# Altium integrated library Altium_WE-PD2A+(rev22c).IntLib: 94 symbols (part 1 of 2)
Pins are listed as number, name and electrical type; pins without a type are passive.

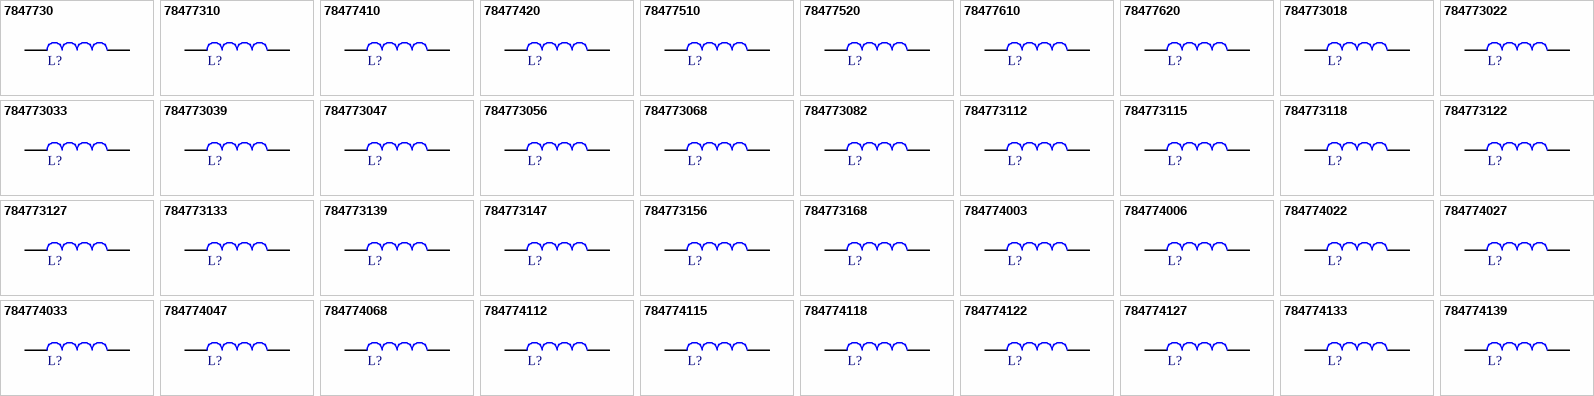
[diagram p0: symbols 7847730 to 784774139]

## 7847730
designator L?, comment 1µH  (value not drawn)
WE-PD2A SMT Power Inductor, size 4532, 1µH, 4A, 0.049Ω; Manufacturer Part Number: 7847730; Manufacturer: Wurth Elektronik; Case/Size Code: 4532; DC Resistance: 0.014Ω; Rated Voltage: 80VDC; Saturation Current: 5.72A; Self Resonant Frequency: 110MHz; Category: Single Coil Power Inductors; Match Code: WE-PD2A; ComponentLink1Description: Website Link; ComponentLink1URL: https://www.we-online.com/redexpert/article/7847730?ad; ComponentLink2Description: Datasheet Link; ComponentLink2URL: https://www.we-online.com/redexpert/spec/7847730?ad; Mount: Surface Mount; Operating Temperature Max: 125°C; Operating Temperature Min: -40°C; Packaging: Tape and Reel; Length: 4.5mm; Width: 4mm; Height: 3.2mm; Automotive: Yes; DC Resistance Max: 0.049Ω; Inductance: 1µH; Rated Current: 4A
footprint WE-PD2A_4532
simulation model 4532_7847730_1u
pins: 1, 2

## 78477310
designator L?, comment 10µH  (value not drawn)
WE-PD2A SMT Power Inductor, size 4532, 10µH, 1.45A, 0.182Ω; Manufacturer Part Number: 78477310; Manufacturer: Wurth Elektronik; Case/Size Code: 4532; DC Resistance: 0.118Ω; Rated Voltage: 80VDC; Saturation Current: 1.74A; Self Resonant Frequency: 30MHz; Category: Single Coil Power Inductors; Match Code: WE-PD2A; ComponentLink1Description: Website Link; ComponentLink1URL: https://www.we-online.com/redexpert/article/78477310?ad; ComponentLink2Description: Datasheet Link; ComponentLink2URL: https://www.we-online.com/redexpert/spec/78477310?ad; Mount: Surface Mount; Operating Temperature Max: 125°C; Operating Temperature Min: -40°C; Packaging: Tape and Reel; Length: 4.5mm; Width: 4mm; Height: 3.2mm; Automotive: Yes; DC Resistance Max: 0.182Ω; Inductance: 10µH; Rated Current: 1.45A
footprint WE-PD2A_4532
simulation model 4532_78477310_10u
pins: 1, 2

## 78477410
designator L?, comment 10µH  (value not drawn)
WE-PD2A SMT Power Inductor, size 5848, 10µH, 2.2A, 0.1Ω; Manufacturer Part Number: 78477410; Manufacturer: Wurth Elektronik; Case/Size Code: 5848; DC Resistance: 0.078Ω; Rated Voltage: 80VDC; Saturation Current: 2.5A; Self Resonant Frequency: 26MHz; Category: Single Coil Power Inductors; Match Code: WE-PD2A; ComponentLink1Description: Website Link; ComponentLink1URL: https://www.we-online.com/redexpert/article/78477410?ad; ComponentLink2Description: Datasheet Link; ComponentLink2URL: https://www.we-online.com/redexpert/spec/78477410?ad; Mount: Surface Mount; Operating Temperature Max: 125°C; Operating Temperature Min: -40°C; Packaging: Tape and Reel; Length: 5.8mm; Width: 5.2mm; Height: 4.5mm; Automotive: Yes; DC Resistance Max: 0.1Ω; Inductance: 10µH; Rated Current: 2.2A
footprint WE-PD2A_5848
simulation model 5848_78477410_10u
pins: 1, 2

## 78477420
designator L?, comment 100µH  (value not drawn)
WE-PD2A SMT Power Inductor, size 5848, 100µH, 0.57A, 0.65Ω; Manufacturer Part Number: 78477420; Manufacturer: Wurth Elektronik; Case/Size Code: 5848; DC Resistance: 0.51Ω; Rated Voltage: 80VDC; Saturation Current: 0.68A; Self Resonant Frequency: 7MHz; Category: Single Coil Power Inductors; Match Code: WE-PD2A; ComponentLink1Description: Website Link; ComponentLink1URL: https://www.we-online.com/redexpert/article/78477420?ad; ComponentLink2Description: Datasheet Link; ComponentLink2URL: https://www.we-online.com/redexpert/spec/78477420?ad; Mount: Surface Mount; Operating Temperature Max: 125°C; Operating Temperature Min: -40°C; Packaging: Tape and Reel; Length: 5.8mm; Width: 5.2mm; Height: 4.5mm; Automotive: Yes; DC Resistance Max: 0.65Ω; Inductance: 100µH; Rated Current: 0.57A
footprint WE-PD2A_5848
simulation model 5848_78477420_100u
pins: 1, 2

## 78477510
designator L?, comment 10µH  (value not drawn)
WE-PD2A SMT Power Inductor, size 7850, 10µH, 2.3A, 0.07Ω; Manufacturer Part Number: 78477510; Manufacturer: Wurth Elektronik; Case/Size Code: 7850; DC Resistance: 0.04Ω; Rated Voltage: 80VDC; Saturation Current: 2.95A; Self Resonant Frequency: 23MHz; Category: Single Coil Power Inductors; Match Code: WE-PD2A; ComponentLink1Description: Website Link; ComponentLink1URL: https://www.we-online.com/redexpert/article/78477510?ad; ComponentLink2Description: Datasheet Link; ComponentLink2URL: https://www.we-online.com/redexpert/spec/78477510?ad; Mount: Surface Mount; Operating Temperature Max: 125°C; Operating Temperature Min: -40°C; Packaging: Tape and Reel; Length: 7.8mm; Width: 7mm; Height: 5mm; Automotive: Yes; DC Resistance Max: 0.07Ω; Inductance: 10µH; Rated Current: 2.3A
footprint WE-PD2A_7850
simulation model 7850_78477510_10u
pins: 1, 2

## 78477520
designator L?, comment 100µH  (value not drawn)
WE-PD2A SMT Power Inductor, size 7850, 100µH, 0.77A, 0.43Ω; Manufacturer Part Number: 78477520; Manufacturer: Wurth Elektronik; Case/Size Code: 7850; DC Resistance: 0.281Ω; Rated Voltage: 80VDC; Saturation Current: 0.86A; Self Resonant Frequency: 7MHz; Category: Single Coil Power Inductors; Match Code: WE-PD2A; ComponentLink1Description: Website Link; ComponentLink1URL: https://www.we-online.com/redexpert/article/78477520?ad; ComponentLink2Description: Datasheet Link; ComponentLink2URL: https://www.we-online.com/redexpert/spec/78477520?ad; Mount: Surface Mount; Operating Temperature Max: 125°C; Operating Temperature Min: -40°C; Packaging: Tape and Reel; Length: 7.8mm; Width: 7mm; Height: 5mm; Automotive: Yes; DC Resistance Max: 0.43Ω; Inductance: 100µH; Rated Current: 0.77A
footprint WE-PD2A_7850
simulation model 7850_78477520_100u
pins: 1, 2

## 78477610
designator L?, comment 10µH  (value not drawn)
WE-PD2A SMT Power Inductor, size 1054, 10µH, 2.98A, 0.06Ω; Manufacturer Part Number: 78477610; Manufacturer: Wurth Elektronik; Case/Size Code: 1054; DC Resistance: 0.028Ω; Rated Voltage: 80VDC; Saturation Current: 3.24A; Self Resonant Frequency: 27.52MHz; Category: Single Coil Power Inductors; Match Code: WE-PD2A; ComponentLink1Description: Website Link; ComponentLink1URL: https://www.we-online.com/redexpert/article/78477610?ad; ComponentLink2Description: Datasheet Link; ComponentLink2URL: https://www.we-online.com/redexpert/spec/78477610?ad; Mount: Surface Mount; Operating Temperature Max: 125°C; Operating Temperature Min: -40°C; Packaging: Tape and Reel; Length: 10mm; Width: 9mm; Height: 5.4mm; Automotive: Yes; DC Resistance Max: 0.06Ω; Inductance: 10µH; Rated Current: 2.98A
footprint WE-PD2A_1054
simulation model 1054_78477610_10u
pins: 1, 2

## 78477620
designator L?, comment 100µH  (value not drawn)
WE-PD2A SMT Power Inductor, size 1054, 100µH, 1.02A, 0.35Ω; Manufacturer Part Number: 78477620; Manufacturer: Wurth Elektronik; Case/Size Code: 1054; DC Resistance: 0.2Ω; Rated Voltage: 80VDC; Saturation Current: 1.1A; Self Resonant Frequency: 6.69MHz; Category: Single Coil Power Inductors; Match Code: WE-PD2A; ComponentLink1Description: Website Link; ComponentLink1URL: https://www.we-online.com/redexpert/article/78477620?ad; ComponentLink2Description: Datasheet Link; ComponentLink2URL: https://www.we-online.com/redexpert/spec/78477620?ad; Mount: Surface Mount; Operating Temperature Max: 125°C; Operating Temperature Min: -40°C; Packaging: Tape and Reel; Length: 10mm; Width: 9mm; Height: 5.4mm; Automotive: Yes; DC Resistance Max: 0.35Ω; Inductance: 100µH; Rated Current: 1.02A
footprint WE-PD2A_1054
simulation model 1054_78477620_100u
pins: 1, 2

## 784773018
designator L?, comment 1.8µH  (value not drawn)
WE-PD2A SMT Power Inductor, size 4532, 1.8µH, 2.7A, 0.064Ω; Manufacturer Part Number: 784773018; Manufacturer: Wurth Elektronik; Case/Size Code: 4532; DC Resistance: 0.028Ω; Rated Voltage: 80VDC; Saturation Current: 3.6A; Self Resonant Frequency: 85MHz; Category: Single Coil Power Inductors; Match Code: WE-PD2A; ComponentLink1Description: Website Link; ComponentLink1URL: https://www.we-online.com/redexpert/article/784773018?ad; ComponentLink2Description: Datasheet Link; ComponentLink2URL: https://www.we-online.com/redexpert/spec/784773018?ad; Mount: Surface Mount; Operating Temperature Max: 125°C; Operating Temperature Min: -40°C; Packaging: Tape and Reel; Length: 4.5mm; Width: 4mm; Height: 3.2mm; Automotive: Yes; DC Resistance Max: 0.064Ω; Inductance: 1.8µH; Rated Current: 2.7A
footprint WE-PD2A_4532
simulation model 4532_784773018_1.8u
pins: 1, 2

## 784773022
designator L?, comment 2.2µH  (value not drawn)
WE-PD2A SMT Power Inductor, size 4532, 2.2µH, 2.5A, 0.071Ω; Manufacturer Part Number: 784773022; Manufacturer: Wurth Elektronik; Case/Size Code: 4532; DC Resistance: 0.034Ω; Rated Voltage: 80VDC; Saturation Current: 3.38A; Self Resonant Frequency: 74MHz; Category: Single Coil Power Inductors; Match Code: WE-PD2A; ComponentLink1Description: Website Link; ComponentLink1URL: https://www.we-online.com/redexpert/article/784773022?ad; ComponentLink2Description: Datasheet Link; ComponentLink2URL: https://www.we-online.com/redexpert/spec/784773022?ad; Mount: Surface Mount; Operating Temperature Max: 125°C; Operating Temperature Min: -40°C; Packaging: Tape and Reel; Length: 4.5mm; Width: 4mm; Height: 3.2mm; Automotive: Yes; DC Resistance Max: 0.071Ω; Inductance: 2.2µH; Rated Current: 2.5A
footprint WE-PD2A_4532
simulation model 4532_784773022_2.2u
pins: 1, 2

## 784773033
designator L?, comment 3.3µH  (value not drawn)
WE-PD2A SMT Power Inductor, size 4532, 3.3µH, 2A, 0.086Ω; Manufacturer Part Number: 784773033; Manufacturer: Wurth Elektronik; Case/Size Code: 4532; DC Resistance: 0.041Ω; Rated Voltage: 80VDC; Saturation Current: 2.88A; Self Resonant Frequency: 55MHz; Category: Single Coil Power Inductors; Match Code: WE-PD2A; ComponentLink1Description: Website Link; ComponentLink1URL: https://www.we-online.com/redexpert/article/784773033?ad; ComponentLink2Description: Datasheet Link; ComponentLink2URL: https://www.we-online.com/redexpert/spec/784773033?ad; Mount: Surface Mount; Operating Temperature Max: 125°C; Operating Temperature Min: -40°C; Packaging: Tape and Reel; Length: 4.5mm; Width: 4mm; Height: 3.2mm; Automotive: Yes; DC Resistance Max: 0.086Ω; Inductance: 3.3µH; Rated Current: 2A
footprint WE-PD2A_4532
simulation model 4532_784773033_3.3u
pins: 1, 2

## 784773039
designator L?, comment 3.9µH  (value not drawn)
WE-PD2A SMT Power Inductor, size 4532, 3.9µH, 1.88A, 0.094Ω; Manufacturer Part Number: 784773039; Manufacturer: Wurth Elektronik; Case/Size Code: 4532; DC Resistance: 0.054Ω; Rated Voltage: 80VDC; Saturation Current: 2.57A; Self Resonant Frequency: 50MHz; Category: Single Coil Power Inductors; Match Code: WE-PD2A; ComponentLink1Description: Website Link; ComponentLink1URL: https://www.we-online.com/redexpert/article/784773039?ad; ComponentLink2Description: Datasheet Link; ComponentLink2URL: https://www.we-online.com/redexpert/spec/784773039?ad; Mount: Surface Mount; Operating Temperature Max: 125°C; Operating Temperature Min: -40°C; Packaging: Tape and Reel; Length: 4.5mm; Width: 4mm; Height: 3.2mm; Automotive: Yes; DC Resistance Max: 0.094Ω; Inductance: 3.9µH; Rated Current: 1.88A
footprint WE-PD2A_4532
simulation model 4532_784773039_3.9u
pins: 1, 2

## 784773047
designator L?, comment 4.7µH  (value not drawn)
WE-PD2A SMT Power Inductor, size 4532, 4.7µH, 1.82A, 0.11Ω; Manufacturer Part Number: 784773047; Manufacturer: Wurth Elektronik; Case/Size Code: 4532; DC Resistance: 0.059Ω; Rated Voltage: 80VDC; Saturation Current: 2.46A; Self Resonant Frequency: 45MHz; Category: Single Coil Power Inductors; Match Code: WE-PD2A; ComponentLink1Description: Website Link; ComponentLink1URL: https://www.we-online.com/redexpert/article/784773047?ad; ComponentLink2Description: Datasheet Link; ComponentLink2URL: https://www.we-online.com/redexpert/spec/784773047?ad; Mount: Surface Mount; Operating Temperature Max: 125°C; Operating Temperature Min: -40°C; Packaging: Tape and Reel; Length: 4.5mm; Width: 4mm; Height: 3.2mm; Automotive: Yes; DC Resistance Max: 0.11Ω; Inductance: 4.7µH; Rated Current: 1.82A
footprint WE-PD2A_4532
simulation model 4532_784773047_4.7u
pins: 1, 2

## 784773056
designator L?, comment 5.6µH  (value not drawn)
WE-PD2A SMT Power Inductor, size 4532, 5.6µH, 1.58A, 0.126Ω; Manufacturer Part Number: 784773056; Manufacturer: Wurth Elektronik; Case/Size Code: 4532; DC Resistance: 0.069Ω; Rated Voltage: 80VDC; Saturation Current: 2.43A; Self Resonant Frequency: 40MHz; Category: Single Coil Power Inductors; Match Code: WE-PD2A; ComponentLink1Description: Website Link; ComponentLink1URL: https://www.we-online.com/redexpert/article/784773056?ad; ComponentLink2Description: Datasheet Link; ComponentLink2URL: https://www.we-online.com/redexpert/spec/784773056?ad; Mount: Surface Mount; Operating Temperature Max: 125°C; Operating Temperature Min: -40°C; Packaging: Tape and Reel; Length: 4.5mm; Width: 4mm; Height: 3.2mm; Automotive: Yes; DC Resistance Max: 0.126Ω; Inductance: 5.6µH; Rated Current: 1.58A
footprint WE-PD2A_4532
simulation model 4532_784773056_5.6u
pins: 1, 2

## 784773068
designator L?, comment 6.8µH  (value not drawn)
WE-PD2A SMT Power Inductor, size 4532, 6.8µH, 1.54A, 0.131Ω; Manufacturer Part Number: 784773068; Manufacturer: Wurth Elektronik; Case/Size Code: 4532; DC Resistance: 0.076Ω; Rated Voltage: 80VDC; Saturation Current: 2.1A; Self Resonant Frequency: 35MHz; Category: Single Coil Power Inductors; Match Code: WE-PD2A; ComponentLink1Description: Website Link; ComponentLink1URL: https://www.we-online.com/redexpert/article/784773068?ad; ComponentLink2Description: Datasheet Link; ComponentLink2URL: https://www.we-online.com/redexpert/spec/784773068?ad; Mount: Surface Mount; Operating Temperature Max: 125°C; Operating Temperature Min: -40°C; Packaging: Tape and Reel; Length: 4.5mm; Width: 4mm; Height: 3.2mm; Automotive: Yes; DC Resistance Max: 0.131Ω; Inductance: 6.8µH; Rated Current: 1.54A
footprint WE-PD2A_4532
simulation model 4532_784773068_6.8u
pins: 1, 2

## 784773082
designator L?, comment 8.2µH  (value not drawn)
WE-PD2A SMT Power Inductor, size 4532, 8.2µH, 1.5A, 0.146Ω; Manufacturer Part Number: 784773082; Manufacturer: Wurth Elektronik; Case/Size Code: 4532; DC Resistance: 0.116Ω; Rated Voltage: 80VDC; Saturation Current: 1.8A; Self Resonant Frequency: 30MHz; Category: Single Coil Power Inductors; Match Code: WE-PD2A; ComponentLink1Description: Website Link; ComponentLink1URL: https://www.we-online.com/redexpert/article/784773082?ad; ComponentLink2Description: Datasheet Link; ComponentLink2URL: https://www.we-online.com/redexpert/spec/784773082?ad; Mount: Surface Mount; Operating Temperature Max: 125°C; Operating Temperature Min: -40°C; Packaging: Tape and Reel; Length: 4.5mm; Width: 4mm; Height: 3.2mm; Automotive: Yes; DC Resistance Max: 0.146Ω; Inductance: 8.2µH; Rated Current: 1.5A
footprint WE-PD2A_4532
simulation model 4532_784773082_8.2u
pins: 1, 2

## 784773112
designator L?, comment 12µH  (value not drawn)
WE-PD2A SMT Power Inductor, size 4532, 12µH, 1.28A, 0.21Ω; Manufacturer Part Number: 784773112; Manufacturer: Wurth Elektronik; Case/Size Code: 4532; DC Resistance: 0.156Ω; Rated Voltage: 80VDC; Saturation Current: 1.62A; Self Resonant Frequency: 30MHz; Category: Single Coil Power Inductors; Match Code: WE-PD2A; ComponentLink1Description: Website Link; ComponentLink1URL: https://www.we-online.com/redexpert/article/784773112?ad; ComponentLink2Description: Datasheet Link; ComponentLink2URL: https://www.we-online.com/redexpert/spec/784773112?ad; Mount: Surface Mount; Operating Temperature Max: 125°C; Operating Temperature Min: -40°C; Packaging: Tape and Reel; Length: 4.5mm; Width: 4mm; Height: 3.2mm; Automotive: Yes; DC Resistance Max: 0.21Ω; Inductance: 12µH; Rated Current: 1.28A
footprint WE-PD2A_4532
simulation model 4532_784773112_12u
pins: 1, 2

## 784773115
designator L?, comment 15µH  (value not drawn)
WE-PD2A SMT Power Inductor, size 4532, 15µH, 1.2A, 0.235Ω; Manufacturer Part Number: 784773115; Manufacturer: Wurth Elektronik; Case/Size Code: 4532; DC Resistance: 0.204Ω; Rated Voltage: 80VDC; Saturation Current: 1.46A; Self Resonant Frequency: 27MHz; Category: Single Coil Power Inductors; Match Code: WE-PD2A; ComponentLink1Description: Website Link; ComponentLink1URL: https://www.we-online.com/redexpert/article/784773115?ad; ComponentLink2Description: Datasheet Link; ComponentLink2URL: https://www.we-online.com/redexpert/spec/784773115?ad; Mount: Surface Mount; Operating Temperature Max: 125°C; Operating Temperature Min: -40°C; Packaging: Tape and Reel; Length: 4.5mm; Width: 4mm; Height: 3.2mm; Automotive: Yes; DC Resistance Max: 0.235Ω; Inductance: 15µH; Rated Current: 1.2A
footprint WE-PD2A_4532
simulation model 4532_784773115_15u
pins: 1, 2

## 784773118
designator L?, comment 18µH  (value not drawn)
WE-PD2A SMT Power Inductor, size 4532, 18µH, 1.1A, 0.338Ω; Manufacturer Part Number: 784773118; Manufacturer: Wurth Elektronik; Case/Size Code: 4532; DC Resistance: 0.225Ω; Rated Voltage: 80VDC; Saturation Current: 1.29A; Self Resonant Frequency: 22MHz; Category: Single Coil Power Inductors; Match Code: WE-PD2A; ComponentLink1Description: Website Link; ComponentLink1URL: https://www.we-online.com/redexpert/article/784773118?ad; ComponentLink2Description: Datasheet Link; ComponentLink2URL: https://www.we-online.com/redexpert/spec/784773118?ad; Mount: Surface Mount; Operating Temperature Max: 125°C; Operating Temperature Min: -40°C; Packaging: Tape and Reel; Length: 4.5mm; Width: 4mm; Height: 3.2mm; Automotive: Yes; DC Resistance Max: 0.338Ω; Inductance: 18µH; Rated Current: 1.1A
footprint WE-PD2A_4532
simulation model 4532_784773118_18u
pins: 1, 2

## 784773122
designator L?, comment 22µH  (value not drawn)
WE-PD2A SMT Power Inductor, size 4532, 22µH, 1A, 0.37Ω; Manufacturer Part Number: 784773122; Manufacturer: Wurth Elektronik; Case/Size Code: 4532; DC Resistance: 0.261Ω; Rated Voltage: 80VDC; Saturation Current: 1.22A; Self Resonant Frequency: 20MHz; Category: Single Coil Power Inductors; Match Code: WE-PD2A; ComponentLink1Description: Website Link; ComponentLink1URL: https://www.we-online.com/redexpert/article/784773122?ad; ComponentLink2Description: Datasheet Link; ComponentLink2URL: https://www.we-online.com/redexpert/spec/784773122?ad; Mount: Surface Mount; Operating Temperature Max: 125°C; Operating Temperature Min: -40°C; Packaging: Tape and Reel; Length: 4.5mm; Width: 4mm; Height: 3.2mm; Automotive: Yes; DC Resistance Max: 0.37Ω; Inductance: 22µH; Rated Current: 1A
footprint WE-PD2A_4532
simulation model 4532_784773122_22u
pins: 1, 2

## 784773127
designator L?, comment 27µH  (value not drawn)
WE-PD2A SMT Power Inductor, size 4532, 27µH, 0.94A, 0.522Ω; Manufacturer Part Number: 784773127; Manufacturer: Wurth Elektronik; Case/Size Code: 4532; DC Resistance: 0.328Ω; Rated Voltage: 80VDC; Saturation Current: 1A; Self Resonant Frequency: 17MHz; Category: Single Coil Power Inductors; Match Code: WE-PD2A; ComponentLink1Description: Website Link; ComponentLink1URL: https://www.we-online.com/redexpert/article/784773127?ad; ComponentLink2Description: Datasheet Link; ComponentLink2URL: https://www.we-online.com/redexpert/spec/784773127?ad; Mount: Surface Mount; Operating Temperature Max: 125°C; Operating Temperature Min: -40°C; Packaging: Tape and Reel; Length: 4.5mm; Width: 4mm; Height: 3.2mm; Automotive: Yes; DC Resistance Max: 0.522Ω; Inductance: 27µH; Rated Current: 0.94A
footprint WE-PD2A_4532
simulation model 4532_784773127_27u
pins: 1, 2

## 784773133
designator L?, comment 33µH  (value not drawn)
WE-PD2A SMT Power Inductor, size 4532, 33µH, 0.86A, 0.54Ω; Manufacturer Part Number: 784773133; Manufacturer: Wurth Elektronik; Case/Size Code: 4532; DC Resistance: 0.37Ω; Rated Voltage: 80VDC; Saturation Current: 0.9A; Self Resonant Frequency: 16MHz; Category: Single Coil Power Inductors; Match Code: WE-PD2A; ComponentLink1Description: Website Link; ComponentLink1URL: https://www.we-online.com/redexpert/article/784773133?ad; ComponentLink2Description: Datasheet Link; ComponentLink2URL: https://www.we-online.com/redexpert/spec/784773133?ad; Mount: Surface Mount; Operating Temperature Max: 125°C; Operating Temperature Min: -40°C; Packaging: Tape and Reel; Length: 4.5mm; Width: 4mm; Height: 3.2mm; Automotive: Yes; DC Resistance Max: 0.54Ω; Inductance: 33µH; Rated Current: 0.86A
footprint WE-PD2A_4532
simulation model 4532_784773133_33u
pins: 1, 2

## 784773139
designator L?, comment 39µH  (value not drawn)
WE-PD2A SMT Power Inductor, size 4532, 39µH, 0.77A, 0.587Ω; Manufacturer Part Number: 784773139; Manufacturer: Wurth Elektronik; Case/Size Code: 4532; DC Resistance: 0.418Ω; Rated Voltage: 80VDC; Saturation Current: 0.87A; Self Resonant Frequency: 15MHz; Category: Single Coil Power Inductors; Match Code: WE-PD2A; ComponentLink1Description: Website Link; ComponentLink1URL: https://www.we-online.com/redexpert/article/784773139?ad; ComponentLink2Description: Datasheet Link; ComponentLink2URL: https://www.we-online.com/redexpert/spec/784773139?ad; Mount: Surface Mount; Operating Temperature Max: 125°C; Operating Temperature Min: -40°C; Packaging: Tape and Reel; Length: 4.5mm; Width: 4mm; Height: 3.2mm; Automotive: Yes; DC Resistance Max: 0.587Ω; Inductance: 39µH; Rated Current: 0.77A
footprint WE-PD2A_4532
simulation model 4532_784773139_39u
pins: 1, 2

## 784773147
designator L?, comment 47µH  (value not drawn)
WE-PD2A SMT Power Inductor, size 4532, 47µH, 0.68A, 0.844Ω; Manufacturer Part Number: 784773147; Manufacturer: Wurth Elektronik; Case/Size Code: 4532; DC Resistance: 0.523Ω; Rated Voltage: 80VDC; Saturation Current: 0.77A; Self Resonant Frequency: 12MHz; Category: Single Coil Power Inductors; Match Code: WE-PD2A; ComponentLink1Description: Website Link; ComponentLink1URL: https://www.we-online.com/redexpert/article/784773147?ad; ComponentLink2Description: Datasheet Link; ComponentLink2URL: https://www.we-online.com/redexpert/spec/784773147?ad; Mount: Surface Mount; Operating Temperature Max: 125°C; Operating Temperature Min: -40°C; Packaging: Tape and Reel; Length: 4.5mm; Width: 4mm; Height: 3.2mm; Automotive: Yes; DC Resistance Max: 0.844Ω; Inductance: 47µH; Rated Current: 0.68A
footprint WE-PD2A_4532
simulation model 4532_784773147_47u
pins: 1, 2

## 784773156
designator L?, comment 56µH  (value not drawn)
WE-PD2A SMT Power Inductor, size 4532, 56µH, 0.64A, 0.937Ω; Manufacturer Part Number: 784773156; Manufacturer: Wurth Elektronik; Case/Size Code: 4532; DC Resistance: 0.714Ω; Rated Voltage: 80VDC; Saturation Current: 0.75A; Self Resonant Frequency: 12MHz; Category: Single Coil Power Inductors; Match Code: WE-PD2A; ComponentLink1Description: Website Link; ComponentLink1URL: https://www.we-online.com/redexpert/article/784773156?ad; ComponentLink2Description: Datasheet Link; ComponentLink2URL: https://www.we-online.com/redexpert/spec/784773156?ad; Mount: Surface Mount; Operating Temperature Max: 125°C; Operating Temperature Min: -40°C; Packaging: Tape and Reel; Length: 4.5mm; Width: 4mm; Height: 3.2mm; Automotive: Yes; DC Resistance Max: 0.937Ω; Inductance: 56µH; Rated Current: 0.64A
footprint WE-PD2A_4532
simulation model 4532_784773156_56u
pins: 1, 2

## 784773168
designator L?, comment 68µH  (value not drawn)
WE-PD2A SMT Power Inductor, size 4532, 68µH, 0.56A, 1.117Ω; Manufacturer Part Number: 784773168; Manufacturer: Wurth Elektronik; Case/Size Code: 4532; DC Resistance: 0.754Ω; Rated Voltage: 80VDC; Saturation Current: 0.68A; Self Resonant Frequency: 11MHz; Category: Single Coil Power Inductors; Match Code: WE-PD2A; ComponentLink1Description: Website Link; ComponentLink1URL: https://www.we-online.com/redexpert/article/784773168?ad; ComponentLink2Description: Datasheet Link; ComponentLink2URL: https://www.we-online.com/redexpert/spec/784773168?ad; Mount: Surface Mount; Operating Temperature Max: 125°C; Operating Temperature Min: -40°C; Packaging: Tape and Reel; Length: 4.5mm; Width: 4mm; Height: 3.2mm; Automotive: Yes; DC Resistance Max: 1.117Ω; Inductance: 68µH; Rated Current: 0.56A
footprint WE-PD2A_4532
simulation model 4532_784773168_68u
pins: 1, 2

## 784774003
designator L?, comment 0.33µH  (value not drawn)
WE-PD2A SMT Power Inductor, size 5848, 0.33µH, 10.8A, 0.008Ω; Manufacturer Part Number: 784774003; Manufacturer: Wurth Elektronik; Case/Size Code: 5848; DC Resistance: 0.006Ω; Rated Voltage: 80VDC; Saturation Current: 15.3A; Self Resonant Frequency: 295MHz; Category: Single Coil Power Inductors; Match Code: WE-PD2A; ComponentLink1Description: Website Link; ComponentLink1URL: https://www.we-online.com/redexpert/article/784774003?ad; ComponentLink2Description: Datasheet Link; ComponentLink2URL: https://www.we-online.com/redexpert/spec/784774003?ad; Mount: Surface Mount; Operating Temperature Max: 125°C; Operating Temperature Min: -40°C; Packaging: Tape and Reel; Length: 5.8mm; Width: 5.2mm; Height: 4.5mm; Automotive: Yes; DC Resistance Max: 0.008Ω; Inductance: 0.33µH; Rated Current: 10.8A
footprint WE-PD2A_5848
simulation model 5848_784774003_0.33u
pins: 1, 2

## 784774006
designator L?, comment 0.6µH  (value not drawn)
WE-PD2A SMT Power Inductor, size 5848, 0.6µH, 8.2A, 0.018Ω; Manufacturer Part Number: 784774006; Manufacturer: Wurth Elektronik; Case/Size Code: 5848; DC Resistance: 0.009Ω; Rated Voltage: 80VDC; Saturation Current: 13.5A; Self Resonant Frequency: 210MHz; Category: Single Coil Power Inductors; Match Code: WE-PD2A; ComponentLink1Description: Website Link; ComponentLink1URL: https://www.we-online.com/redexpert/article/784774006?ad; ComponentLink2Description: Datasheet Link; ComponentLink2URL: https://www.we-online.com/redexpert/spec/784774006?ad; Mount: Surface Mount; Operating Temperature Max: 125°C; Operating Temperature Min: -40°C; Packaging: Tape and Reel; Length: 5.8mm; Width: 5.2mm; Height: 4.5mm; Automotive: Yes; DC Resistance Max: 0.018Ω; Inductance: 0.6µH; Rated Current: 8.2A
footprint WE-PD2A_5848
simulation model 5848_784774006_0.6u
pins: 1, 2

## 784774022
designator L?, comment 2.2µH  (value not drawn)
WE-PD2A SMT Power Inductor, size 5848, 2.2µH, 4.6A, 0.041Ω; Manufacturer Part Number: 784774022; Manufacturer: Wurth Elektronik; Case/Size Code: 5848; DC Resistance: 0.026Ω; Rated Voltage: 80VDC; Saturation Current: 8.2A; Self Resonant Frequency: 54MHz; Category: Single Coil Power Inductors; Match Code: WE-PD2A; ComponentLink1Description: Website Link; ComponentLink1URL: https://www.we-online.com/redexpert/article/784774022?ad; ComponentLink2Description: Datasheet Link; ComponentLink2URL: https://www.we-online.com/redexpert/spec/784774022?ad; Mount: Surface Mount; Operating Temperature Max: 125°C; Operating Temperature Min: -40°C; Packaging: Tape and Reel; Length: 5.8mm; Width: 5.2mm; Height: 4.5mm; Automotive: Yes; DC Resistance Max: 0.041Ω; Inductance: 2.2µH; Rated Current: 4.6A
footprint WE-PD2A_5848
simulation model 5848_784774022_2.2u
pins: 1, 2

## 784774027
designator L?, comment 2.7µH  (value not drawn)
WE-PD2A SMT Power Inductor, size 5848, 2.7µH, 4A, 0.045Ω; Manufacturer Part Number: 784774027; Manufacturer: Wurth Elektronik; Case/Size Code: 5848; DC Resistance: 0.032Ω; Rated Voltage: 80VDC; Saturation Current: 8A; Self Resonant Frequency: 50MHz; Category: Single Coil Power Inductors; Match Code: WE-PD2A; ComponentLink1Description: Website Link; ComponentLink1URL: https://www.we-online.com/redexpert/article/784774027?ad; ComponentLink2Description: Datasheet Link; ComponentLink2URL: https://www.we-online.com/redexpert/spec/784774027?ad; Mount: Surface Mount; Operating Temperature Max: 125°C; Operating Temperature Min: -40°C; Packaging: Tape and Reel; Length: 5.8mm; Width: 5.2mm; Height: 4.5mm; Automotive: Yes; DC Resistance Max: 0.045Ω; Inductance: 2.7µH; Rated Current: 4A
footprint WE-PD2A_5848
simulation model 5848_784774027_2.7u
pins: 1, 2

## 784774033
designator L?, comment 3.3µH  (value not drawn)
WE-PD2A SMT Power Inductor, size 5848, 3.3µH, 3.7A, 0.06Ω; Manufacturer Part Number: 784774033; Manufacturer: Wurth Elektronik; Case/Size Code: 5848; DC Resistance: 0.042Ω; Rated Voltage: 80VDC; Saturation Current: 7.5A; Self Resonant Frequency: 43MHz; Category: Single Coil Power Inductors; Match Code: WE-PD2A; ComponentLink1Description: Website Link; ComponentLink1URL: https://www.we-online.com/redexpert/article/784774033?ad; ComponentLink2Description: Datasheet Link; ComponentLink2URL: https://www.we-online.com/redexpert/spec/784774033?ad; Mount: Surface Mount; Operating Temperature Max: 125°C; Operating Temperature Min: -40°C; Packaging: Tape and Reel; Length: 5.8mm; Width: 5.2mm; Height: 4.5mm; Automotive: Yes; DC Resistance Max: 0.06Ω; Inductance: 3.3µH; Rated Current: 3.7A
footprint WE-PD2A_5848
simulation model 5848_784774033_3.3u
pins: 1, 2

## 784774047
designator L?, comment 4.7µH  (value not drawn)
WE-PD2A SMT Power Inductor, size 5848, 4.7µH, 3A, 0.071Ω; Manufacturer Part Number: 784774047; Manufacturer: Wurth Elektronik; Case/Size Code: 5848; DC Resistance: 0.056Ω; Rated Voltage: 80VDC; Saturation Current: 5.5A; Self Resonant Frequency: 33MHz; Category: Single Coil Power Inductors; Match Code: WE-PD2A; ComponentLink1Description: Website Link; ComponentLink1URL: https://www.we-online.com/redexpert/article/784774047?ad; ComponentLink2Description: Datasheet Link; ComponentLink2URL: https://www.we-online.com/redexpert/spec/784774047?ad; Mount: Surface Mount; Operating Temperature Max: 125°C; Operating Temperature Min: -40°C; Packaging: Tape and Reel; Length: 5.8mm; Width: 5.2mm; Height: 4.5mm; Automotive: Yes; DC Resistance Max: 0.071Ω; Inductance: 4.7µH; Rated Current: 3A
footprint WE-PD2A_5848
simulation model 5848_784774047_4.7u
pins: 1, 2

## 784774068
designator L?, comment 6.8µH  (value not drawn)
WE-PD2A SMT Power Inductor, size 5848, 6.8µH, 2.4A, 0.082Ω; Manufacturer Part Number: 784774068; Manufacturer: Wurth Elektronik; Case/Size Code: 5848; DC Resistance: 0.071Ω; Rated Voltage: 80VDC; Saturation Current: 5A; Self Resonant Frequency: 28MHz; Category: Single Coil Power Inductors; Match Code: WE-PD2A; ComponentLink1Description: Website Link; ComponentLink1URL: https://www.we-online.com/redexpert/article/784774068?ad; ComponentLink2Description: Datasheet Link; ComponentLink2URL: https://www.we-online.com/redexpert/spec/784774068?ad; Mount: Surface Mount; Operating Temperature Max: 125°C; Operating Temperature Min: -40°C; Packaging: Tape and Reel; Length: 5.8mm; Width: 5.2mm; Height: 4.5mm; Automotive: Yes; DC Resistance Max: 0.082Ω; Inductance: 6.8µH; Rated Current: 2.4A
footprint WE-PD2A_5848
simulation model 5848_784774068_6.8u
pins: 1, 2

## 784774112
designator L?, comment 12µH  (value not drawn)
WE-PD2A SMT Power Inductor, size 5848, 12µH, 2A, 0.11Ω; Manufacturer Part Number: 784774112; Manufacturer: Wurth Elektronik; Case/Size Code: 5848; DC Resistance: 0.082Ω; Rated Voltage: 80VDC; Saturation Current: 1.94A; Self Resonant Frequency: 24MHz; Category: Single Coil Power Inductors; Match Code: WE-PD2A; ComponentLink1Description: Website Link; ComponentLink1URL: https://www.we-online.com/redexpert/article/784774112?ad; ComponentLink2Description: Datasheet Link; ComponentLink2URL: https://www.we-online.com/redexpert/spec/784774112?ad; Mount: Surface Mount; Operating Temperature Max: 125°C; Operating Temperature Min: -40°C; Packaging: Tape and Reel; Length: 5.8mm; Width: 5.2mm; Height: 4.5mm; Automotive: Yes; DC Resistance Max: 0.11Ω; Inductance: 12µH; Rated Current: 2A
footprint WE-PD2A_5848
simulation model 5848_784774112_12u
pins: 1, 2

## 784774115
designator L?, comment 15µH  (value not drawn)
WE-PD2A SMT Power Inductor, size 5848, 15µH, 1.53A, 0.14Ω; Manufacturer Part Number: 784774115; Manufacturer: Wurth Elektronik; Case/Size Code: 5848; DC Resistance: 0.089Ω; Rated Voltage: 80VDC; Saturation Current: 1.9A; Self Resonant Frequency: 20MHz; Category: Single Coil Power Inductors; Match Code: WE-PD2A; ComponentLink1Description: Website Link; ComponentLink1URL: https://www.we-online.com/redexpert/article/784774115?ad; ComponentLink2Description: Datasheet Link; ComponentLink2URL: https://www.we-online.com/redexpert/spec/784774115?ad; Mount: Surface Mount; Operating Temperature Max: 125°C; Operating Temperature Min: -40°C; Packaging: Tape and Reel; Length: 5.8mm; Width: 5.2mm; Height: 4.5mm; Automotive: Yes; DC Resistance Max: 0.14Ω; Inductance: 15µH; Rated Current: 1.53A
footprint WE-PD2A_5848
simulation model 5848_784774115_15u
pins: 1, 2

## 784774118
designator L?, comment 18µH  (value not drawn)
WE-PD2A SMT Power Inductor, size 5848, 18µH, 1.45A, 0.15Ω; Manufacturer Part Number: 784774118; Manufacturer: Wurth Elektronik; Case/Size Code: 5848; DC Resistance: 0.104Ω; Rated Voltage: 80VDC; Saturation Current: 1.69A; Self Resonant Frequency: 19MHz; Category: Single Coil Power Inductors; Match Code: WE-PD2A; ComponentLink1Description: Website Link; ComponentLink1URL: https://www.we-online.com/redexpert/article/784774118?ad; ComponentLink2Description: Datasheet Link; ComponentLink2URL: https://www.we-online.com/redexpert/spec/784774118?ad; Mount: Surface Mount; Operating Temperature Max: 125°C; Operating Temperature Min: -40°C; Packaging: Tape and Reel; Length: 5.8mm; Width: 5.2mm; Height: 4.5mm; Automotive: Yes; DC Resistance Max: 0.15Ω; Inductance: 18µH; Rated Current: 1.45A
footprint WE-PD2A_5848
simulation model 5848_784774118_18u
pins: 1, 2

## 784774122
designator L?, comment 22µH  (value not drawn)
WE-PD2A SMT Power Inductor, size 5848, 22µH, 1.28A, 0.18Ω; Manufacturer Part Number: 784774122; Manufacturer: Wurth Elektronik; Case/Size Code: 5848; DC Resistance: 0.109Ω; Rated Voltage: 80VDC; Saturation Current: 1.53A; Self Resonant Frequency: 16MHz; Category: Single Coil Power Inductors; Match Code: WE-PD2A; ComponentLink1Description: Website Link; ComponentLink1URL: https://www.we-online.com/redexpert/article/784774122?ad; ComponentLink2Description: Datasheet Link; ComponentLink2URL: https://www.we-online.com/redexpert/spec/784774122?ad; Mount: Surface Mount; Operating Temperature Max: 125°C; Operating Temperature Min: -40°C; Packaging: Tape and Reel; Length: 5.8mm; Width: 5.2mm; Height: 4.5mm; Automotive: Yes; DC Resistance Max: 0.18Ω; Inductance: 22µH; Rated Current: 1.28A
footprint WE-PD2A_5848
simulation model 5848_784774122_22u
pins: 1, 2

## 784774127
designator L?, comment 27µH  (value not drawn)
WE-PD2A SMT Power Inductor, size 5848, 27µH, 1.19A, 0.2Ω; Manufacturer Part Number: 784774127; Manufacturer: Wurth Elektronik; Case/Size Code: 5848; DC Resistance: 0.133Ω; Rated Voltage: 80VDC; Saturation Current: 1.4A; Self Resonant Frequency: 15MHz; Category: Single Coil Power Inductors; Match Code: WE-PD2A; ComponentLink1Description: Website Link; ComponentLink1URL: https://www.we-online.com/redexpert/article/784774127?ad; ComponentLink2Description: Datasheet Link; ComponentLink2URL: https://www.we-online.com/redexpert/spec/784774127?ad; Mount: Surface Mount; Operating Temperature Max: 125°C; Operating Temperature Min: -40°C; Packaging: Tape and Reel; Length: 5.8mm; Width: 5.2mm; Height: 4.5mm; Automotive: Yes; DC Resistance Max: 0.2Ω; Inductance: 27µH; Rated Current: 1.19A
footprint WE-PD2A_5848
simulation model 5848_784774127_27u
pins: 1, 2

## 784774133
designator L?, comment 33µH  (value not drawn)
WE-PD2A SMT Power Inductor, size 5848, 33µH, 1.09A, 0.23Ω; Manufacturer Part Number: 784774133; Manufacturer: Wurth Elektronik; Case/Size Code: 5848; DC Resistance: 0.15Ω; Rated Voltage: 80VDC; Saturation Current: 1.17A; Self Resonant Frequency: 14MHz; Category: Single Coil Power Inductors; Match Code: WE-PD2A; ComponentLink1Description: Website Link; ComponentLink1URL: https://www.we-online.com/redexpert/article/784774133?ad; ComponentLink2Description: Datasheet Link; ComponentLink2URL: https://www.we-online.com/redexpert/spec/784774133?ad; Mount: Surface Mount; Operating Temperature Max: 125°C; Operating Temperature Min: -40°C; Packaging: Tape and Reel; Length: 5.8mm; Width: 5.2mm; Height: 4.5mm; Automotive: Yes; DC Resistance Max: 0.23Ω; Inductance: 33µH; Rated Current: 1.09A
footprint WE-PD2A_5848
simulation model 5848_784774133_33u
pins: 1, 2

## 784774139
designator L?, comment 39µH  (value not drawn)
WE-PD2A SMT Power Inductor, size 5848, 39µH, 0.94A, 0.32Ω; Manufacturer Part Number: 784774139; Manufacturer: Wurth Elektronik; Case/Size Code: 5848; DC Resistance: 0.215Ω; Rated Voltage: 80VDC; Saturation Current: 1.1A; Self Resonant Frequency: 12MHz; Category: Single Coil Power Inductors; Match Code: WE-PD2A; ComponentLink1Description: Website Link; ComponentLink1URL: https://www.we-online.com/redexpert/article/784774139?ad; ComponentLink2Description: Datasheet Link; ComponentLink2URL: https://www.we-online.com/redexpert/spec/784774139?ad; Mount: Surface Mount; Operating Temperature Max: 125°C; Operating Temperature Min: -40°C; Packaging: Tape and Reel; Length: 5.8mm; Width: 5.2mm; Height: 4.5mm; Automotive: Yes; DC Resistance Max: 0.32Ω; Inductance: 39µH; Rated Current: 0.94A
footprint WE-PD2A_5848
simulation model 5848_784774139_39u
pins: 1, 2

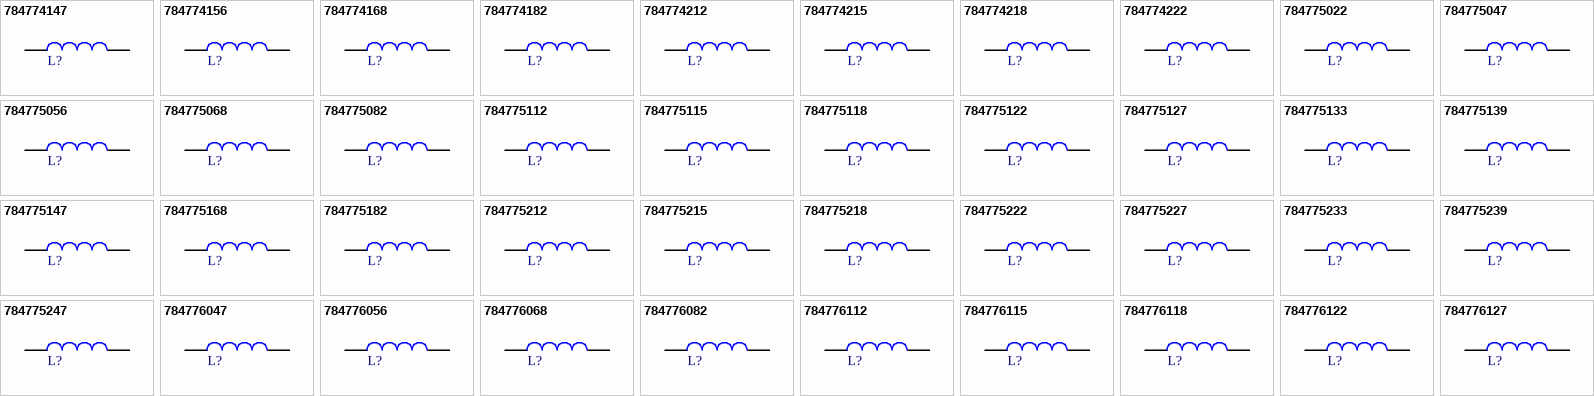
[diagram p1: symbols 784774147 to 784776127]

## 784774147
designator L?, comment 47µH  (value not drawn)
WE-PD2A SMT Power Inductor, size 5848, 47µH, 0.86A, 0.37Ω; Manufacturer Part Number: 784774147; Manufacturer: Wurth Elektronik; Case/Size Code: 5848; DC Resistance: 0.26Ω; Rated Voltage: 80VDC; Saturation Current: 1A; Self Resonant Frequency: 10MHz; Category: Single Coil Power Inductors; Match Code: WE-PD2A; ComponentLink1Description: Website Link; ComponentLink1URL: https://www.we-online.com/redexpert/article/784774147?ad; ComponentLink2Description: Datasheet Link; ComponentLink2URL: https://www.we-online.com/redexpert/spec/784774147?ad; Mount: Surface Mount; Operating Temperature Max: 125°C; Operating Temperature Min: -40°C; Packaging: Tape and Reel; Length: 5.8mm; Width: 5.2mm; Height: 4.5mm; Automotive: Yes; DC Resistance Max: 0.37Ω; Inductance: 47µH; Rated Current: 0.86A
footprint WE-PD2A_5848
simulation model 5848_784774147_47u
pins: 1, 2

## 784774156
designator L?, comment 56µH  (value not drawn)
WE-PD2A SMT Power Inductor, size 5848, 56µH, 0.77A, 0.42Ω; Manufacturer Part Number: 784774156; Manufacturer: Wurth Elektronik; Case/Size Code: 5848; DC Resistance: 0.298Ω; Rated Voltage: 80VDC; Saturation Current: 0.9A; Self Resonant Frequency: 10MHz; Category: Single Coil Power Inductors; Match Code: WE-PD2A; ComponentLink1Description: Website Link; ComponentLink1URL: https://www.we-online.com/redexpert/article/784774156?ad; ComponentLink2Description: Datasheet Link; ComponentLink2URL: https://www.we-online.com/redexpert/spec/784774156?ad; Mount: Surface Mount; Operating Temperature Max: 125°C; Operating Temperature Min: -40°C; Packaging: Tape and Reel; Length: 5.8mm; Width: 5.2mm; Height: 4.5mm; Automotive: Yes; DC Resistance Max: 0.42Ω; Inductance: 56µH; Rated Current: 0.77A
footprint WE-PD2A_5848
simulation model 5848_784774156_56u
pins: 1, 2

## 784774168
designator L?, comment 68µH  (value not drawn)
WE-PD2A SMT Power Inductor, size 5848, 68µH, 0.64A, 0.46Ω; Manufacturer Part Number: 784774168; Manufacturer: Wurth Elektronik; Case/Size Code: 5848; DC Resistance: 0.313Ω; Rated Voltage: 80VDC; Saturation Current: 0.86A; Self Resonant Frequency: 10MHz; Category: Single Coil Power Inductors; Match Code: WE-PD2A; ComponentLink1Description: Website Link; ComponentLink1URL: https://www.we-online.com/redexpert/article/784774168?ad; ComponentLink2Description: Datasheet Link; ComponentLink2URL: https://www.we-online.com/redexpert/spec/784774168?ad; Mount: Surface Mount; Operating Temperature Max: 125°C; Operating Temperature Min: -40°C; Packaging: Tape and Reel; Length: 5.8mm; Width: 5.2mm; Height: 4.5mm; Automotive: Yes; DC Resistance Max: 0.46Ω; Inductance: 68µH; Rated Current: 0.64A
footprint WE-PD2A_5848
simulation model 5848_784774168_68u
pins: 1, 2

## 784774182
designator L?, comment 82µH  (value not drawn)
WE-PD2A SMT Power Inductor, size 5848, 82µH, 0.6A, 0.6Ω; Manufacturer Part Number: 784774182; Manufacturer: Wurth Elektronik; Case/Size Code: 5848; DC Resistance: 0.475Ω; Rated Voltage: 80VDC; Saturation Current: 0.72A; Self Resonant Frequency: 8MHz; Category: Single Coil Power Inductors; Match Code: WE-PD2A; ComponentLink1Description: Website Link; ComponentLink1URL: https://www.we-online.com/redexpert/article/784774182?ad; ComponentLink2Description: Datasheet Link; ComponentLink2URL: https://www.we-online.com/redexpert/spec/784774182?ad; Mount: Surface Mount; Operating Temperature Max: 125°C; Operating Temperature Min: -40°C; Packaging: Tape and Reel; Length: 5.8mm; Width: 5.2mm; Height: 4.5mm; Automotive: Yes; DC Resistance Max: 0.6Ω; Inductance: 82µH; Rated Current: 0.6A
footprint WE-PD2A_5848
simulation model 5848_784774182_82u
pins: 1, 2

## 784774212
designator L?, comment 120µH  (value not drawn)
WE-PD2A SMT Power Inductor, size 5848, 120µH, 0.49A, 0.93Ω; Manufacturer Part Number: 784774212; Manufacturer: Wurth Elektronik; Case/Size Code: 5848; DC Resistance: 0.66Ω; Rated Voltage: 80VDC; Saturation Current: 0.63A; Self Resonant Frequency: 7MHz; Category: Single Coil Power Inductors; Match Code: WE-PD2A; ComponentLink1Description: Website Link; ComponentLink1URL: https://www.we-online.com/redexpert/article/784774212?ad; ComponentLink2Description: Datasheet Link; ComponentLink2URL: https://www.we-online.com/redexpert/spec/784774212?ad; Mount: Surface Mount; Operating Temperature Max: 125°C; Operating Temperature Min: -40°C; Packaging: Tape and Reel; Length: 5.8mm; Width: 5.2mm; Height: 4.5mm; Automotive: Yes; DC Resistance Max: 0.93Ω; Inductance: 120µH; Rated Current: 0.49A
footprint WE-PD2A_5848
simulation model 5848_784774212_120u
pins: 1, 2

## 784774215
designator L?, comment 150µH  (value not drawn)
WE-PD2A SMT Power Inductor, size 5848, 150µH, 0.46A, 1.1Ω; Manufacturer Part Number: 784774215; Manufacturer: Wurth Elektronik; Case/Size Code: 5848; DC Resistance: 0.72Ω; Rated Voltage: 80VDC; Saturation Current: 0.54A; Self Resonant Frequency: 6MHz; Category: Single Coil Power Inductors; Match Code: WE-PD2A; ComponentLink1Description: Website Link; ComponentLink1URL: https://www.we-online.com/redexpert/article/784774215?ad; ComponentLink2Description: Datasheet Link; ComponentLink2URL: https://www.we-online.com/redexpert/spec/784774215?ad; Mount: Surface Mount; Operating Temperature Max: 125°C; Operating Temperature Min: -40°C; Packaging: Tape and Reel; Length: 5.8mm; Width: 5.2mm; Height: 4.5mm; Automotive: Yes; DC Resistance Max: 1.1Ω; Inductance: 150µH; Rated Current: 0.46A
footprint WE-PD2A_5848
simulation model 5848_784774215_150u
pins: 1, 2

## 784774218
designator L?, comment 180µH  (value not drawn)
WE-PD2A SMT Power Inductor, size 5848, 180µH, 0.42A, 1.38Ω; Manufacturer Part Number: 784774218; Manufacturer: Wurth Elektronik; Case/Size Code: 5848; DC Resistance: 0.85Ω; Rated Voltage: 80VDC; Saturation Current: 0.5A; Self Resonant Frequency: 6MHz; Category: Single Coil Power Inductors; Match Code: WE-PD2A; ComponentLink1Description: Website Link; ComponentLink1URL: https://www.we-online.com/redexpert/article/784774218?ad; ComponentLink2Description: Datasheet Link; ComponentLink2URL: https://www.we-online.com/redexpert/spec/784774218?ad; Mount: Surface Mount; Operating Temperature Max: 125°C; Operating Temperature Min: -40°C; Packaging: Tape and Reel; Length: 5.8mm; Width: 5.2mm; Height: 4.5mm; Automotive: Yes; DC Resistance Max: 1.38Ω; Inductance: 180µH; Rated Current: 0.42A
footprint WE-PD2A_5848
simulation model 5848_784774218_180u
pins: 1, 2

## 784774222
designator L?, comment 220µH  (value not drawn)
WE-PD2A SMT Power Inductor, size 5848, 220µH, 0.41A, 1.57Ω; Manufacturer Part Number: 784774222; Manufacturer: Wurth Elektronik; Case/Size Code: 5848; DC Resistance: 0.945Ω; Rated Voltage: 80VDC; Saturation Current: 0.47A; Self Resonant Frequency: 5MHz; Category: Single Coil Power Inductors; Match Code: WE-PD2A; ComponentLink1Description: Website Link; ComponentLink1URL: https://www.we-online.com/redexpert/article/784774222?ad; ComponentLink2Description: Datasheet Link; ComponentLink2URL: https://www.we-online.com/redexpert/spec/784774222?ad; Mount: Surface Mount; Operating Temperature Max: 125°C; Operating Temperature Min: -40°C; Packaging: Tape and Reel; Length: 5.8mm; Width: 5.2mm; Height: 4.5mm; Automotive: Yes; DC Resistance Max: 1.57Ω; Inductance: 220µH; Rated Current: 0.41A
footprint WE-PD2A_5848
simulation model 5848_784774222_220u
pins: 1, 2

## 784775022
designator L?, comment 2.2µH  (value not drawn)
WE-PD2A SMT Power Inductor, size 7850, 2.2µH, 6A, 0.015Ω; Manufacturer Part Number: 784775022; Manufacturer: Wurth Elektronik; Case/Size Code: 7850; DC Resistance: 0.008Ω; Rated Voltage: 80VDC; Self Resonant Frequency: 70MHz; Category: Single Coil Power Inductors; Match Code: WE-PD2A; ComponentLink1Description: Website Link; ComponentLink1URL: https://www.we-online.com/redexpert/article/784775022?ad; ComponentLink2Description: Datasheet Link; ComponentLink2URL: https://www.we-online.com/redexpert/spec/784775022?ad; Mount: Surface Mount; Operating Temperature Max: 125°C; Operating Temperature Min: -40°C; Packaging: Tape and Reel; Length: 7.8mm; Width: 7mm; Height: 5mm; Automotive: Yes; DC Resistance Max: 0.015Ω; Inductance: 2.2µH; Rated Current: 6A; Saturation Current: 6A
footprint WE-PD2A_7850
simulation model 7850_784775022_2.2u
pins: 1, 2

## 784775047
designator L?, comment 4.7µH  (value not drawn)
WE-PD2A SMT Power Inductor, size 7850, 4.7µH, 4.5A, 0.019Ω; Manufacturer Part Number: 784775047; Manufacturer: Wurth Elektronik; Case/Size Code: 7850; DC Resistance: 0.016Ω; Rated Voltage: 80VDC; Self Resonant Frequency: 47MHz; Category: Single Coil Power Inductors; Match Code: WE-PD2A; ComponentLink1Description: Website Link; ComponentLink1URL: https://www.we-online.com/redexpert/article/784775047?ad; ComponentLink2Description: Datasheet Link; ComponentLink2URL: https://www.we-online.com/redexpert/spec/784775047?ad; Mount: Surface Mount; Operating Temperature Max: 125°C; Operating Temperature Min: -40°C; Packaging: Tape and Reel; Length: 7.8mm; Width: 7mm; Height: 5mm; Automotive: Yes; DC Resistance Max: 0.019Ω; Inductance: 4.7µH; Rated Current: 4.5A; Saturation Current: 4.5A
footprint WE-PD2A_7850
simulation model 7850_784775047_4.7u
pins: 1, 2

## 784775056
designator L?, comment 5.6µH  (value not drawn)
WE-PD2A SMT Power Inductor, size 7850, 5.6µH, 4A, 0.022Ω; Manufacturer Part Number: 784775056; Manufacturer: Wurth Elektronik; Case/Size Code: 7850; DC Resistance: 0.018Ω; Rated Voltage: 80VDC; Self Resonant Frequency: 34MHz; Category: Single Coil Power Inductors; Match Code: WE-PD2A; ComponentLink1Description: Website Link; ComponentLink1URL: https://www.we-online.com/redexpert/article/784775056?ad; ComponentLink2Description: Datasheet Link; ComponentLink2URL: https://www.we-online.com/redexpert/spec/784775056?ad; Mount: Surface Mount; Operating Temperature Max: 125°C; Operating Temperature Min: -40°C; Packaging: Tape and Reel; Length: 7.8mm; Width: 7mm; Height: 5mm; Automotive: Yes; DC Resistance Max: 0.022Ω; Inductance: 5.6µH; Rated Current: 4A; Saturation Current: 4A
footprint WE-PD2A_7850
simulation model 7850_784775056_5.6u
pins: 1, 2

## 784775068
designator L?, comment 6.8µH  (value not drawn)
WE-PD2A SMT Power Inductor, size 7850, 6.8µH, 3.7A, 0.026Ω; Manufacturer Part Number: 784775068; Manufacturer: Wurth Elektronik; Case/Size Code: 7850; DC Resistance: 0.022Ω; Rated Voltage: 80VDC; Saturation Current: 3.8A; Self Resonant Frequency: 30MHz; Category: Single Coil Power Inductors; Match Code: WE-PD2A; ComponentLink1Description: Website Link; ComponentLink1URL: https://www.we-online.com/redexpert/article/784775068?ad; ComponentLink2Description: Datasheet Link; ComponentLink2URL: https://www.we-online.com/redexpert/spec/784775068?ad; Mount: Surface Mount; Operating Temperature Max: 125°C; Operating Temperature Min: -40°C; Packaging: Tape and Reel; Length: 7.8mm; Width: 7mm; Height: 5mm; Automotive: Yes; DC Resistance Max: 0.026Ω; Inductance: 6.8µH; Rated Current: 3.7A
footprint WE-PD2A_7850
simulation model 7850_784775068_6.8u
pins: 1, 2

## 784775082
designator L?, comment 8.2µH  (value not drawn)
WE-PD2A SMT Power Inductor, size 7850, 8.2µH, 3.2A, 0.029Ω; Manufacturer Part Number: 784775082; Manufacturer: Wurth Elektronik; Case/Size Code: 7850; DC Resistance: 0.024Ω; Rated Voltage: 80VDC; Self Resonant Frequency: 33MHz; Category: Single Coil Power Inductors; Match Code: WE-PD2A; ComponentLink1Description: Website Link; ComponentLink1URL: https://www.we-online.com/redexpert/article/784775082?ad; ComponentLink2Description: Datasheet Link; ComponentLink2URL: https://www.we-online.com/redexpert/spec/784775082?ad; Mount: Surface Mount; Operating Temperature Max: 125°C; Operating Temperature Min: -40°C; Packaging: Tape and Reel; Length: 7.8mm; Width: 7mm; Height: 5mm; Automotive: Yes; DC Resistance Max: 0.029Ω; Inductance: 8.2µH; Rated Current: 3.2A; Saturation Current: 3.2A
footprint WE-PD2A_7850
simulation model 7850_784775082_8.2u
pins: 1, 2

## 784775112
designator L?, comment 12µH  (value not drawn)
WE-PD2A SMT Power Inductor, size 7850, 12µH, 2.18A, 0.08Ω; Manufacturer Part Number: 784775112; Manufacturer: Wurth Elektronik; Case/Size Code: 7850; DC Resistance: 0.042Ω; Rated Voltage: 80VDC; Saturation Current: 2.23A; Self Resonant Frequency: 20MHz; Category: Single Coil Power Inductors; Match Code: WE-PD2A; ComponentLink1Description: Website Link; ComponentLink1URL: https://www.we-online.com/redexpert/article/784775112?ad; ComponentLink2Description: Datasheet Link; ComponentLink2URL: https://www.we-online.com/redexpert/spec/784775112?ad; Mount: Surface Mount; Operating Temperature Max: 125°C; Operating Temperature Min: -40°C; Packaging: Tape and Reel; Length: 7.8mm; Width: 7mm; Height: 5mm; Automotive: Yes; DC Resistance Max: 0.08Ω; Inductance: 12µH; Rated Current: 2.18A
footprint WE-PD2A_7850
simulation model 7850_784775112_12u
pins: 1, 2